# Altium footprint library hole.PcbLib: 24 footprints (part 1 of 2)
Each footprint in its own frame and in the unit in brackets; x right, y up, seen from the top. Pads: shape width x height; smd on the part's side, far side on the other; paste and mask are expansions set on the pad; w line width, h text height; cw(c..) or ccw(c..) is an arc to the next point about the centre after c.
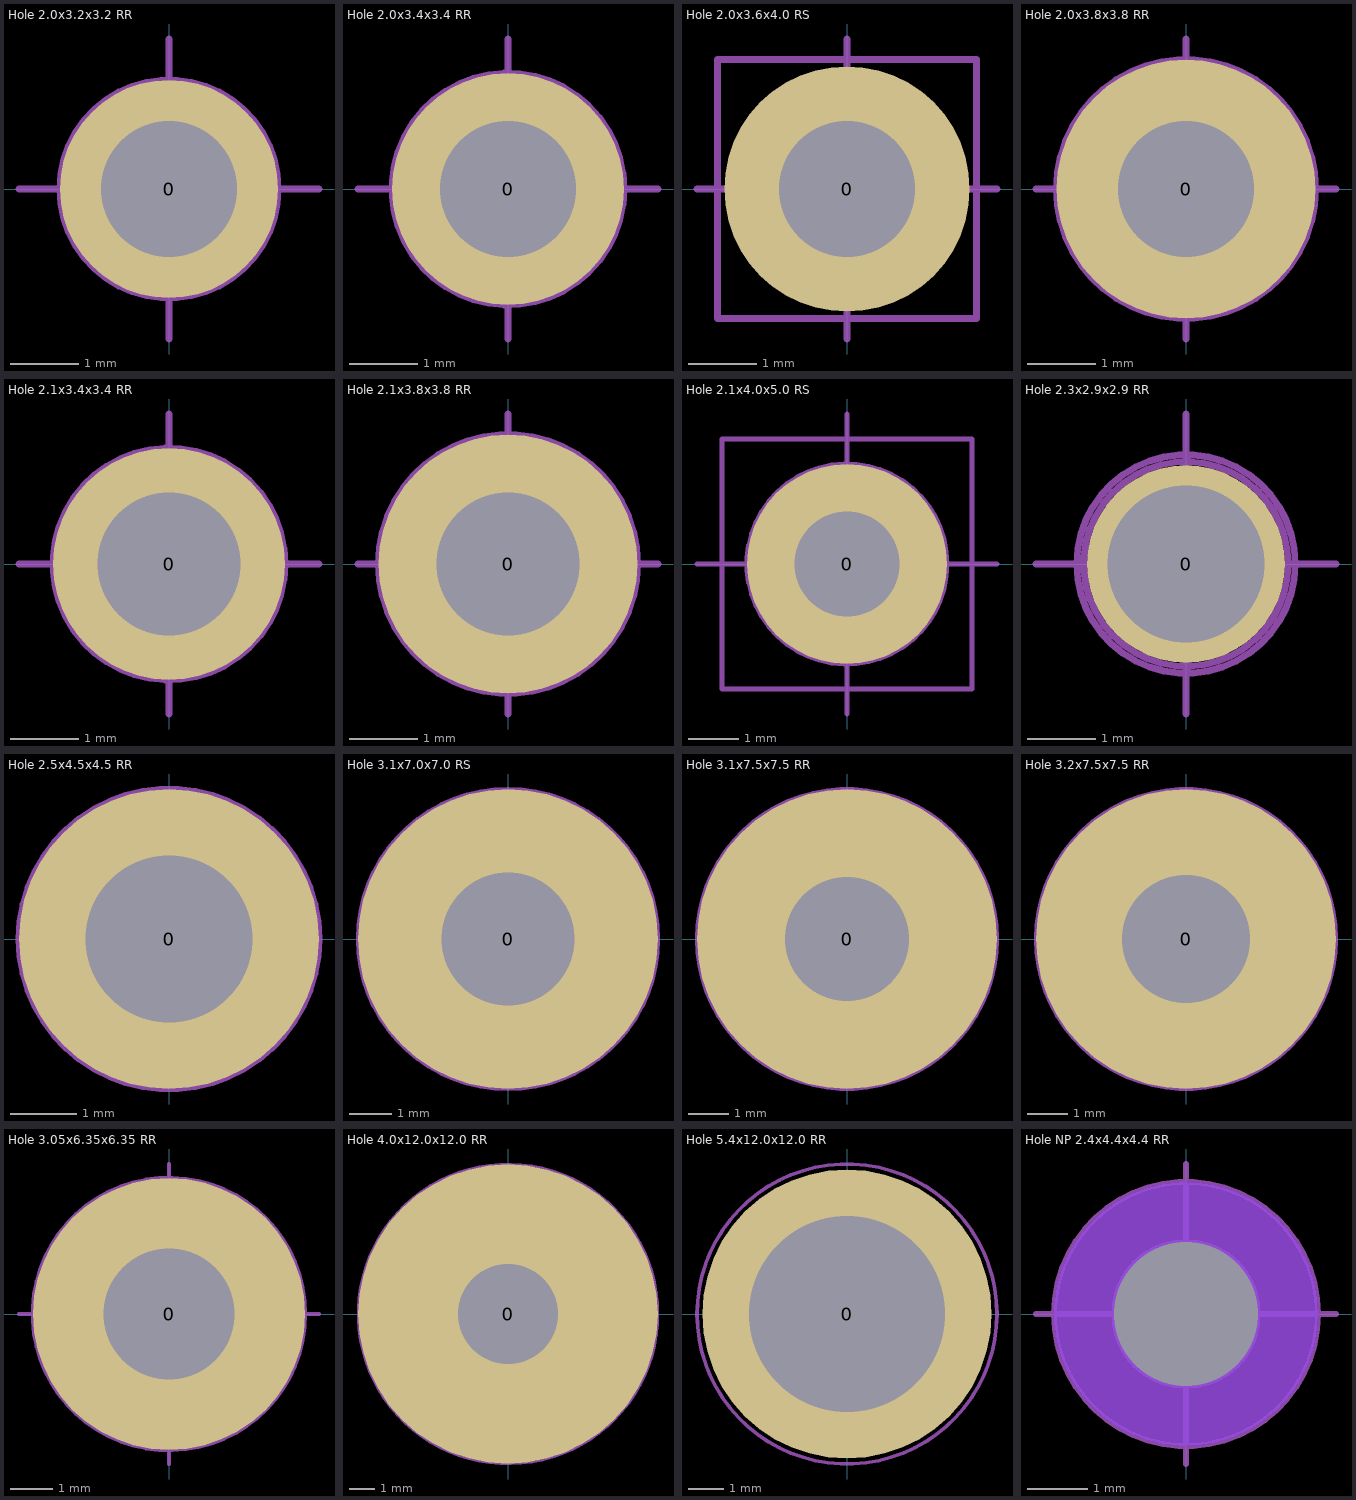
[diagram p0: the footprints below, top view; thin cyan lines are the x and y axes]

## Hole 2.0x3.2x3.2 RR [mm] "2mm Hole Plated, 3.2 Round Pad Top and Bottom"
pads (1):
  round 3.2 / inner round 2.4 / far side round 3.2 hole 2: 0(0,0)
Mechanical 13:
  circle w0.1: c0,0 r1
  lines w0.1: -2.2,0 2.2,0 ; 0,-2.2 0,2.2
Mechanical 14:
  circle w0.1: c0,0 r1
  lines w0.1: -2.2,0 2.2,0 ; 0,-2.2 0,2.2
Mechanical 15:
  circle w0.1: c0,0 r1.6
Mechanical 16:
  circle w0.1: c0,0 r1.6

## Hole 2.0x3.4x3.4 RR [mm] "2mm Hole Plated, 3.4 Round Pad Top and Bottom"
pads (1):
  round 3.4 / inner round 2.5 / far side round 3.4 hole 2: 0(0,0)
Mechanical 13:
  circle w0.1: c0,0 r1
  lines w0.1: -2.2,0 2.2,0 ; 0,-2.2 0,2.2
Mechanical 14:
  circle w0.1: c0,0 r1
  lines w0.1: -2.2,0 2.2,0 ; 0,-2.2 0,2.2
Mechanical 15:
  circle w0.1: c0,0 r1.7
Mechanical 16:
  circle w0.1: c0,0 r1.7

## Hole 2.0x3.6x4.0 RS [mm] "Hole Plated 2mm 3.6 Round Pad on Top, 4mm Square Pad on Botton"
pads (1):
  round 3.6 / inner round 2.5 / far side rect 3.8x3.8 hole 2: 0(0,0)
Mechanical 13:
  circle w0.1: c0,0 r1
  lines w0.1: -2.2,0 2.2,0 ; 0,-2.2 0,2.2
Mechanical 14:
  circle w0.1: c0,0 r1
  lines w0.1: -2.2,0 2.2,0 ; 0,-2.2 0,2.2
Mechanical 15:
  circle w0.1: c0,0 r1.7
  lines w0.1: -1.9,-1.9 -1.9,1.9 1.9,1.9 1.9,-1.9 -1.9,-1.9

## Hole 2.0x3.8x3.8 RR [mm] "2mm Hole Plated, 3.8 Round Pad Top and Bottom"
pads (1):
  round 3.8 / inner round 2.5 / far side round 3.8 hole 2: 0(0,0)
Mechanical 13:
  circle w0.1: c0,0 r1
  lines w0.1: -2.2,0 2.2,0 ; 0,-2.2 0,2.2
Mechanical 14:
  circle w0.1: c0,0 r1
  lines w0.1: -2.2,0 2.2,0 ; 0,-2.2 0,2.2
Mechanical 15:
  circle w0.1: c0,0 r1.9
Mechanical 16:
  circle w0.1: c0,0 r1.9

## Hole 2.1x3.4x3.4 RR [mm] "2.1mm Hole Plated, 3.4 Round Pad Top and Bottom"
pads (1):
  round 3.4 / inner round 2.5 / far side round 3.4 hole 2.1: 0(0,0)
Mechanical 13:
  circle w0.1: c0,0 r1
  lines w0.1: -2.2,0 2.2,0 ; 0,-2.2 0,2.2
Mechanical 14:
  circle w0.1: c0,0 r1
  lines w0.1: -2.2,0 2.2,0 ; 0,-2.2 0,2.2
Mechanical 15:
  circle w0.1: c0,0 r1.7
Mechanical 16:
  circle w0.1: c0,0 r1.7

## Hole 2.1x3.8x3.8 RR [mm] "2.1mm Hole Plated, 3.8 Round Pad Top and Bottom"
pads (1):
  round 3.8 / inner round 2.5 / far side round 3.8 hole 2.1: 0(0,0)
Mechanical 13:
  circle w0.1: c0,0 r1
  lines w0.1: -2.2,0 2.2,0 ; 0,-2.2 0,2.2
Mechanical 14:
  circle w0.1: c0,0 r1
  lines w0.1: -2.2,0 2.2,0 ; 0,-2.2 0,2.2
Mechanical 15:
  circle w0.1: c0,0 r1.9
Mechanical 16:
  circle w0.1: c0,0 r1.9

## Hole 2.1x4.0x5.0 RS [mm] "Hole Plated 2.1mm 4mm Round Pad on Top, 5mm Square Pad on Botton"
pads (1):
  round 4 / inner round 2.5 / far side rect 5x5 hole 2.1: 0(0,0)
Mechanical 13:
  circle w0.1: c0,0 r1
  lines w0.1: -2.5,0 2.5,0 ; 0,-2.5 0,2.5
Mechanical 14:
  circle w0.1: c0,0 r1
  lines w0.1: -3,0 3,0 ; 0,-3 0,3
Mechanical 15:
  circle w0.1: c0,0 r2
Mechanical 16:
  lines w0.1: -2.5,-2.5 -2.5,2.5 2.5,2.5 2.5,-2.5 -2.5,-2.5

## Hole 2.3x2.9x2.9 RR [mm] "2.3mm Hole Plated, 2.9Round Pad Top and Bottom"
pads (1):
  round 2.9 hole 2.3: 0(0,0)
Mechanical 13:
  circle w0.1: c0,0 r1
  lines w0.1: -2.2,0 2.2,0 ; 0,-2.2 0,2.2
Mechanical 14:
  circle w0.1: c0,0 r1
  lines w0.1: -2.2,0 2.2,0 ; 0,-2.2 0,2.2
Mechanical 15:
  circle w0.1: c0,0 r1.603
Mechanical 16:
  circle w0.1: c0,0 r1.5

## Hole 2.5x4.5x4.5 RR [mm] "2.5mm Hole Plated, 4.5 Round Pad Top and Bottom"
pads (1):
  round 4.5 / inner round 3 / far side round 4.5 hole 2.5: 0(0,0)
Mechanical 13:
  circle w0.1: c0,0 r1.25
  lines w0.1: -2.2,0 2.2,0 ; 0,-2.2 0,2.2
Mechanical 14:
  circle w0.1: c0,0 r1
  lines w0.1: -2.2,0 2.2,0 ; 0,-2.2 0,2.2
Mechanical 15:
  circle w0.1: c0,0 r2.25
Mechanical 16:
  circle w0.1: c0,0 r2.25

## Hole 3.1x7.0x7.0 RS [mm] "3.1mm Hole Plated, 7.0 Round Pad Top, 7.0 Square Pad Bottom"
pads (1):
  round 7 / inner round 3.5 / far side rect 7x7 hole 3.1: 0(0,0)
Mechanical 13:
  circle w0.1: c0,0 r1.55
  lines w0.1: -3.5,0 3.5,0 ; 0,-3.5 0,3.5
Mechanical 14:
  circle w0.1: c0,0 r1
  lines w0.1: -3.5,0 3.5,0 ; 0,-3.45 0,3.5
Mechanical 15:
  circle w0.1: c0,0 r3.5
Mechanical 16:
  circle w0.1: c0,0 r3.5

## Hole 3.1x7.5x7.5 RR [mm] "3.1mm Hole Plated, 7.5 Round Pad Top and Bottom"
pads (1):
  round 7.5 / inner round 3.5 / far side round 7.5 hole 3.1: 0(0,0)
Mechanical 13:
  circle w0.1: c0,0 r1.55
  lines w0.1: -3.7,0 3.7,0 ; 0,-3.7 0,3.7
Mechanical 14:
  circle w0.1: c0,0 r1
  lines w0.1: -2.2,0 2.2,0 ; 0,-2.2 0,2.2
Mechanical 15:
  circle w0.1: c0,0 r3.75
Mechanical 16:
  circle w0.1: c0,0 r3.75

## Hole 3.2x7.5x7.5 RR [mm] "3.2mm Hole Plated, 7.5 Round Pad Top and Bottom"
pads (1):
  round 7.5 / inner round 3.6 / far side round 7.5 hole 3.2: 0(0,0)
Mechanical 13:
  circle w0.1: c0,0 r1.6
  lines w0.1: -3.7,0 3.7,0 ; 0,-3.7 0,3.7
Mechanical 14:
  circle w0.1: c0,0 r1
  lines w0.1: -2.2,0 2.2,0 ; 0,-2.2 0,2.2
Mechanical 15:
  circle w0.1: c0,0 r3.75
Mechanical 16:
  circle w0.1: c0,0 r3.75

## Hole 3.05x6.35x6.35 RR [mm] "3.05mm Hole Plated, 3.65 Round Pad Top and Bottom"
pads (1):
  round 6.35 / inner round 3.6 / far side round 6.35 hole 3.05: 0(0,0)
Mechanical 13:
  circle w0.1: c0,0 r1.55
  lines w0.1: -3.5,0 3.5,0 ; 0,-3.5 0,3.5
Mechanical 14:
  circle w0.1: c0,0 r1
  lines w0.1: -3.5,0 3.5,0 ; 0,-3.5 0,3.5
Mechanical 15:
  circle w0.1: c0,0 r3.175
Mechanical 16:
  circle w0.1: c0,0 r3.175

## Hole 4.0x12.0x12.0 RR [mm] "4.0mm Hole Plated, 12.0 Round Pad Top and Bottom"
pads (1):
  round 12 / inner round 4.4 / far side round 12 hole 4: 0(0,0)
Mechanical 13:
  circle w0.1: c0,0 r2
  lines w0.1: -3.7,0 3.7,0 ; 0,-3.7 0,3.7
Mechanical 14:
  circle w0.1: c0,0 r2
  lines w0.1: -2.2,0 2.2,0 ; 0,-2.2 0,2.2
Mechanical 15:
  circle w0.1: c0,0 r6.01
Mechanical 16:
  circle w0.1: c0,0 r6.01

## Hole 5.4x12.0x12.0 RR [mm] "5.4mm Hole Plated, 12.0 Round Pad Top and Bottom"
pads (1):
  round 8.1 / inner round 6 / far side round 8.1 hole 5.5: 0(0,0)
Top Paste:
  lines w1.3: -3.284,-0.88 ccw(c0,0) -0.88,-3.284 ; -3.284,0.88 cw(c0,0) -0.88,3.284 ; 0.88,-3.284 ccw(c0,0) 3.284,-0.88 ; 0.88,3.284 cw(c0,0) 3.284,0.88
Mechanical 13:
  circle w0.1: c0,0 r2
  lines w0.1: -3.7,0 3.7,0 ; 0,-3.7 0,3.7
Mechanical 14:
  circle w0.1: c0,0 r2
  lines w0.1: -2.2,0 2.2,0 ; 0,-2.2 0,2.2
Mechanical 15:
  circle w0.1: c0,0 r4.2
Mechanical 16:
  circle w0.1: c0,0 r4.2
3D body "SMTSO-632-2ET-PennEngineering-04-10-2017.stp": height 1.59, standoff -1.51, extent -3.569,-3.569 3.569,3.569

## Hole NP 2.4x4.4x4.4 RR [mm] "2.4mm Hole Non Plated, 4.4mm Round Clearance Top and Bottom"
pads (1):
  round 0 hole 2.4 unplated: 0(0,0)
Top Layer keep-out:
  circle w1: c0,0 r1.7
Bottom Layer keep-out:
  circle w1: c0,0 r1.7
Mechanical 13:
  circle w0.1: c0,0 r1.2
  lines w0.1: -2.5,0 2.5,0 ; 0,-2.5 0,2.5
Mechanical 14:
  circle w0.1: c0,0 r1.2
  lines w0.1: -2.2,0 2.2,0 ; 0,-2.2 0,2.2
Mechanical 15:
  circle w0.1: c0,0 r2.2
Mechanical 16:
  circle w0.1: c0,0 r2.2